# Altium integrated library ALTIUM-WCAP-PSLC-rev17b.IntLib: 56 symbols
Pins are listed as number, name and electrical type; pins without a type are passive.

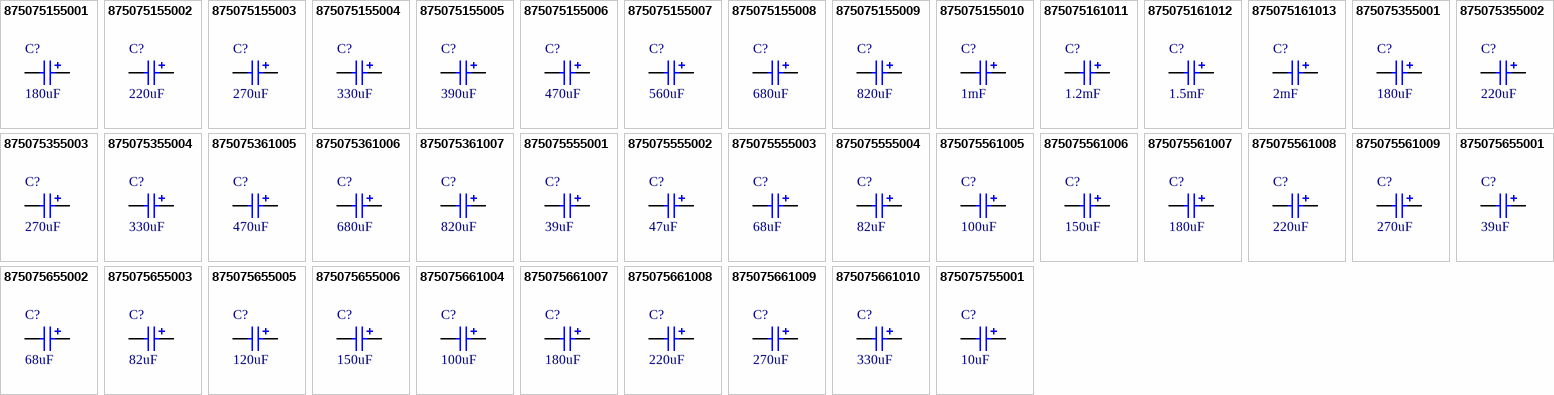
[diagram p0: symbols 875075155001 to 875075755001]

## 875075155001
designator C?  value 180uF
WCAP-PSLC Aluminum Polymer Capacitors, size Ф8x11.7mm, 6.3V DC, 180uF; Part Number: 875075155001; Rated Voltage: 6.3V DC; ComponentLink1Description: Manufacturer; ComponentLink1URL: http://www.we-online.de; ComponentLink2Description: Datasheet; ComponentLink2URL: http://katalog.we-online.de/pbs/datasheet/875075155001.pdf; Published Date: June 2017; Publisher: Wurth Elektronik; Size: Ф8x11.7mm; Life Cycle: 2000h; Operating Temperature: -55 °C up to +105 °C
footprint WCAP-PSLC_8x11.7
pins: 1 P, 2 N

## 875075155002
designator C?  value 220uF
WCAP-PSLC Aluminum Polymer Capacitors, size Ф8x11.7mm, 6.3V DC, 220uF; Part Number: 875075155002; Rated Voltage: 6.3V DC; ComponentLink1Description: Manufacturer; ComponentLink1URL: http://www.we-online.de; ComponentLink2Description: Datasheet; ComponentLink2URL: http://katalog.we-online.de/pbs/datasheet/875075155002.pdf; Published Date: June 2017; Publisher: Wurth Elektronik; Size: Ф8x11.7mm; Life Cycle: 2000h; Operating Temperature: -55 °C up to +105 °C
footprint WCAP-PSLC_8x11.7
pins: 1 P, 2 N

## 875075155003
designator C?  value 270uF
WCAP-PSLC Aluminum Polymer Capacitors, size Ф8x11.7mm, 6.3V DC, 270uF; Part Number: 875075155003; Rated Voltage: 6.3V DC; ComponentLink1Description: Manufacturer; ComponentLink1URL: http://www.we-online.de; ComponentLink2Description: Datasheet; ComponentLink2URL: http://katalog.we-online.de/pbs/datasheet/875075155003.pdf; Published Date: June 2017; Publisher: Wurth Elektronik; Size: Ф8x11.7mm; Life Cycle: 2000h; Operating Temperature: -55 °C up to +105 °C
footprint WCAP-PSLC_8x11.7
pins: 1 P, 2 N

## 875075155004
designator C?  value 330uF
WCAP-PSLC Aluminum Polymer Capacitors, size Ф8x11.7mm, 6.3V DC, 330uF; Part Number: 875075155004; Rated Voltage: 6.3V DC; ComponentLink1Description: Manufacturer; ComponentLink1URL: http://www.we-online.de; ComponentLink2Description: Datasheet; ComponentLink2URL: http://katalog.we-online.de/pbs/datasheet/875075155004.pdf; Published Date: June 2017; Publisher: Wurth Elektronik; Size: Ф8x11.7mm; Life Cycle: 2000h; Operating Temperature: -55 °C up to +105 °C
footprint WCAP-PSLC_8x11.7
pins: 1 P, 2 N

## 875075155005
designator C?  value 390uF
WCAP-PSLC Aluminum Polymer Capacitors, size Ф8x11.7mm, 6.3V DC, 390uF; Part Number: 875075155005; Rated Voltage: 6.3V DC; ComponentLink1Description: Manufacturer; ComponentLink1URL: http://www.we-online.de; ComponentLink2Description: Datasheet; ComponentLink2URL: http://katalog.we-online.de/pbs/datasheet/875075155005.pdf; Published Date: June 2017; Publisher: Wurth Elektronik; Size: Ф8x11.7mm; Life Cycle: 2000h; Operating Temperature: -55 °C up to +105 °C
footprint WCAP-PSLC_8x11.7
pins: 1 P, 2 N

## 875075155006
designator C?  value 470uF
WCAP-PSLC Aluminum Polymer Capacitors, size Ф8x11.7mm, 6.3V DC, 470uF; Part Number: 875075155006; Rated Voltage: 6.3V DC; ComponentLink1Description: Manufacturer; ComponentLink1URL: http://www.we-online.de; ComponentLink2Description: Datasheet; ComponentLink2URL: http://katalog.we-online.de/pbs/datasheet/875075155006.pdf; Published Date: June 2017; Publisher: Wurth Elektronik; Size: Ф8x11.7mm; Life Cycle: 2000h; Operating Temperature: -55 °C up to +105 °C
footprint WCAP-PSLC_8x11.7
pins: 1 P, 2 N

## 875075155007
designator C?  value 560uF
WCAP-PSLC Aluminum Polymer Capacitors, size Ф8x11.7mm, 6.3V DC, 560uF; Part Number: 875075155007; Rated Voltage: 6.3V DC; ComponentLink1Description: Manufacturer; ComponentLink1URL: http://www.we-online.de; ComponentLink2Description: Datasheet; ComponentLink2URL: http://katalog.we-online.de/pbs/datasheet/875075155007.pdf; Published Date: June 2017; Publisher: Wurth Elektronik; Size: Ф8x11.7mm; Life Cycle: 2000h; Operating Temperature: -55 °C up to +105 °C
footprint WCAP-PSLC_8x11.7
pins: 1 P, 2 N

## 875075155008
designator C?  value 680uF
WCAP-PSLC Aluminum Polymer Capacitors, size Ф8x11.7mm, 6.3V DC, 680uF; Part Number: 875075155008; Rated Voltage: 6.3V DC; ComponentLink1Description: Manufacturer; ComponentLink1URL: http://www.we-online.de; ComponentLink2Description: Datasheet; ComponentLink2URL: http://katalog.we-online.de/pbs/datasheet/875075155008.pdf; Published Date: June 2017; Publisher: Wurth Elektronik; Size: Ф8x11.7mm; Life Cycle: 2000h; Operating Temperature: -55 °C up to +105 °C
footprint WCAP-PSLC_8x11.7
pins: 1 P, 2 N

## 875075155009
designator C?  value 820uF
WCAP-PSLC Aluminum Polymer Capacitors, size Ф8x11.7mm, 6.3V DC, 820uF; Part Number: 875075155009; Rated Voltage: 6.3V DC; ComponentLink1Description: Manufacturer; ComponentLink1URL: http://www.we-online.de; ComponentLink2Description: Datasheet; ComponentLink2URL: http://katalog.we-online.de/pbs/datasheet/875075155009.pdf; Published Date: June 2017; Publisher: Wurth Elektronik; Size: Ф8x11.7mm; Life Cycle: 2000h; Operating Temperature: -55 °C up to +105 °C
footprint WCAP-PSLC_8x11.7
pins: 1 P, 2 N

## 875075155010
designator C?  value 1mF
WCAP-PSLC Aluminum Polymer Capacitors, size Ф8x11.7mm, 6.3V DC, 1mF; Part Number: 875075155010; Rated Voltage: 6.3V DC; ComponentLink1Description: Manufacturer; ComponentLink1URL: http://www.we-online.de; ComponentLink2Description: Datasheet; ComponentLink2URL: http://katalog.we-online.de/pbs/datasheet/875075155010.pdf; Published Date: June 2017; Publisher: Wurth Elektronik; Size: Ф8x11.7mm; Life Cycle: 2000h; Operating Temperature: -55 °C up to +105 °C
footprint WCAP-PSLC_8x11.7
pins: 1 P, 2 N

## 875075161011
designator C?  value 1.2mF
WCAP-PSLC Aluminum Polymer Capacitors, size Ф10x12.4mm, 6.3V DC, 1.2mF; Part Number: 875075161011; Rated Voltage: 6.3V DC; ComponentLink1Description: Manufacturer; ComponentLink1URL: http://www.we-online.de; ComponentLink2Description: Datasheet; ComponentLink2URL: http://katalog.we-online.de/pbs/datasheet/875075161011.pdf; Published Date: June 2017; Publisher: Wurth Elektronik; Size: Ф10x12.4mm; Life Cycle: 2000h; Operating Temperature: -55 °C up to +105 °C
footprint WCAP-PSLC_10x12.4
pins: 1 P, 2 N

## 875075161012
designator C?  value 1.5mF
WCAP-PSLC Aluminum Polymer Capacitors, size Ф10x12.4mm, 6.3V DC, 1.5mF; Part Number: 875075161012; Rated Voltage: 6.3V DC; ComponentLink1Description: Manufacturer; ComponentLink1URL: http://www.we-online.de; ComponentLink2Description: Datasheet; ComponentLink2URL: http://katalog.we-online.de/pbs/datasheet/875075161012.pdf; Published Date: June 2017; Publisher: Wurth Elektronik; Size: Ф10x12.4mm; Life Cycle: 2000h; Operating Temperature: -55 °C up to +105 °C
footprint WCAP-PSLC_10x12.4
pins: 1 P, 2 N

## 875075161013
designator C?  value 2mF
WCAP-PSLC Aluminum Polymer Capacitors, size Ф10x12.4mm, 6.3V DC, 2mF; Part Number: 875075161013; Rated Voltage: 6.3V DC; ComponentLink1Description: Manufacturer; ComponentLink1URL: http://www.we-online.de; ComponentLink2Description: Datasheet; ComponentLink2URL: http://katalog.we-online.de/pbs/datasheet/875075161013.pdf; Published Date: June 2017; Publisher: Wurth Elektronik; Size: Ф10x12.4mm; Life Cycle: 2000h; Operating Temperature: -55 °C up to +105 °C
footprint WCAP-PSLC_10x12.4
pins: 1 P, 2 N

## 875075355001
designator C?  value 180uF
WCAP-PSLC Aluminum Polymer Capacitors, size Ф8x11.7mm, 16V DC, 180uF; Part Number: 875075355001; Rated Voltage: 16V DC; ComponentLink1Description: Manufacturer; ComponentLink1URL: http://www.we-online.de; ComponentLink2Description: Datasheet; ComponentLink2URL: http://katalog.we-online.de/pbs/datasheet/875075355001.pdf; Published Date: June 2017; Publisher: Wurth Elektronik; Size: Ф8x11.7mm; Life Cycle: 2000h; Operating Temperature: -55 °C up to +105 °C
footprint WCAP-PSLC_8x11.7 (Aluminium Polymer V-Chip SMT Capacitors, Ф8x11.7mm)
pins: 1 P, 2 N

## 875075355002
designator C?  value 220uF
WCAP-PSLC Aluminum Polymer Capacitors, size Ф8x11.7mm, 16V DC, 220uF; Part Number: 875075355002; Rated Voltage: 16V DC; ComponentLink1Description: Manufacturer; ComponentLink1URL: http://www.we-online.de; ComponentLink2Description: Datasheet; ComponentLink2URL: http://katalog.we-online.de/pbs/datasheet/875075355002.pdf; Published Date: June 2017; Publisher: Wurth Elektronik; Size: Ф8x11.7mm; Life Cycle: 2000h; Operating Temperature: -55 °C up to +105 °C
footprint WCAP-PSLC_8x11.7
pins: 1 P, 2 N

## 875075355003
designator C?  value 270uF
WCAP-PSLC Aluminum Polymer Capacitors, size Ф8x11.7mm, 16V DC, 270uF; Part Number: 875075355003; Rated Voltage: 16V DC; ComponentLink1Description: Manufacturer; ComponentLink1URL: http://www.we-online.de; ComponentLink2Description: Datasheet; ComponentLink2URL: http://katalog.we-online.de/pbs/datasheet/875075355003.pdf; Published Date: June 2017; Publisher: Wurth Elektronik; Size: Ф8x11.7mm; Life Cycle: 2000h; Operating Temperature: -55 °C up to +105 °C
footprint WCAP-PSLC_8x11.7
pins: 1 P, 2 N

## 875075355004
designator C?  value 330uF
WCAP-PSLC Aluminum Polymer Capacitors, size Ф8x11.7mm, 16V DC, 330uF; Part Number: 875075355004; Rated Voltage: 16V DC; ComponentLink1Description: Manufacturer; ComponentLink1URL: http://www.we-online.de; ComponentLink2Description: Datasheet; ComponentLink2URL: http://katalog.we-online.de/pbs/datasheet/875075355004.pdf; Published Date: June 2017; Publisher: Wurth Elektronik; Size: Ф8x11.7mm; Life Cycle: 2000h; Operating Temperature: -55 °C up to +105 °C
footprint WCAP-PSLC_8x11.7
pins: 1 P, 2 N

## 875075361005
designator C?  value 470uF
WCAP-PSLC Aluminum Polymer Capacitors, size Ф10x12.4mm, 16V DC, 470uF; Part Number: 875075361005; Rated Voltage: 16V DC; ComponentLink1Description: Manufacturer; ComponentLink1URL: http://www.we-online.de; ComponentLink2Description: Datasheet; ComponentLink2URL: http://katalog.we-online.de/pbs/datasheet/875075361005.pdf; Published Date: June 2017; Publisher: Wurth Elektronik; Size: Ф10x12.4mm; Life Cycle: 2000h; Operating Temperature: -55 °C up to +105 °C
footprint WCAP-PSLC_10x12.4
pins: 1 P, 2 N

## 875075361006
designator C?  value 680uF
WCAP-PSLC Aluminum Polymer Capacitors, size Ф10x12.4mm, 16V DC, 680uF; Part Number: 875075361006; Rated Voltage: 16V DC; ComponentLink1Description: Manufacturer; ComponentLink1URL: http://www.we-online.de; ComponentLink2Description: Datasheet; ComponentLink2URL: http://katalog.we-online.de/pbs/datasheet/875075361006.pdf; Published Date: June 2017; Publisher: Wurth Elektronik; Size: Ф10x12.4mm; Life Cycle: 2000h; Operating Temperature: -55 °C up to +105 °C
footprint WCAP-PSLC_10x12.4
pins: 1 P, 2 N

## 875075361007
designator C?  value 820uF
WCAP-PSLC Aluminum Polymer Capacitors, size Ф10x12.4mm, 16V DC, 820uF; Part Number: 875075361007; Rated Voltage: 16V DC; ComponentLink1Description: Manufacturer; ComponentLink1URL: http://www.we-online.de; ComponentLink2Description: Datasheet; ComponentLink2URL: http://katalog.we-online.de/pbs/datasheet/875075361007.pdf; Published Date: June 2017; Publisher: Wurth Elektronik; Size: Ф10x12.4mm; Life Cycle: 2000h; Operating Temperature: -55 °C up to +105 °C
footprint WCAP-PSLC_10x12.4
pins: 1 P, 2 N

## 875075555001
designator C?  value 39uF
WCAP-PSLC Aluminum Polymer Capacitors, size Ф8x11.7mm, 25V DC, 39uF; Part Number: 875075555001; Rated Voltage: 25V DC; ComponentLink1Description: Manufacturer; ComponentLink1URL: http://www.we-online.de; ComponentLink2Description: Datasheet; ComponentLink2URL: http://katalog.we-online.de/pbs/datasheet/875075555001.pdf; Published Date: June 2017; Publisher: Wurth Elektronik; Size: Ф8x11.7mm; Life Cycle: 2000h; Operating Temperature: -55 °C up to +105 °C
footprint WCAP-PSLC_8x11.7
pins: 1 P, 2 N

## 875075555002
designator C?  value 47uF
WCAP-PSLC Aluminum Polymer Capacitors, size Ф8x11.7mm, 25V DC, 47uF; Part Number: 875075555002; Rated Voltage: 25V DC; ComponentLink1Description: Manufacturer; ComponentLink1URL: http://www.we-online.de; ComponentLink2Description: Datasheet; ComponentLink2URL: http://katalog.we-online.de/pbs/datasheet/875075555002.pdf; Published Date: June 2017; Publisher: Wurth Elektronik; Size: Ф8x11.7mm; Life Cycle: 2000h; Operating Temperature: -55 °C up to +105 °C
footprint WCAP-PSLC_8x11.7
pins: 1 P, 2 N

## 875075555003
designator C?  value 68uF
WCAP-PSLC Aluminum Polymer Capacitors, size Ф8x11.7mm, 25V DC, 68uF; Part Number: 875075555003; Rated Voltage: 25V DC; ComponentLink1Description: Manufacturer; ComponentLink1URL: http://www.we-online.de; ComponentLink2Description: Datasheet; ComponentLink2URL: http://katalog.we-online.de/pbs/datasheet/875075555003.pdf; Published Date: June 2017; Publisher: Wurth Elektronik; Size: Ф8x11.7mm; Life Cycle: 2000h; Operating Temperature: -55 °C up to +105 °C
footprint WCAP-PSLC_8x11.7
pins: 1 P, 2 N

## 875075555004
designator C?  value 82uF
WCAP-PSLC Aluminum Polymer Capacitors, size Ф8x11.7mm, 25V DC, 82uF; Part Number: 875075555004; Rated Voltage: 25V DC; ComponentLink1Description: Manufacturer; ComponentLink1URL: http://www.we-online.de; ComponentLink2Description: Datasheet; ComponentLink2URL: http://katalog.we-online.de/pbs/datasheet/875075555004.pdf; Published Date: June 2017; Publisher: Wurth Elektronik; Size: Ф8x11.7mm; Life Cycle: 2000h; Operating Temperature: -55 °C up to +105 °C
footprint WCAP-PSLC_8x11.7
pins: 1 P, 2 N

## 875075561005
designator C?  value 100uF
WCAP-PSLC Aluminum Polymer Capacitors, size Ф10x12.4mm, 25V DC, 100uF; Part Number: 875075561005; Rated Voltage: 25V DC; ComponentLink1Description: Manufacturer; ComponentLink1URL: http://www.we-online.de; ComponentLink2Description: Datasheet; ComponentLink2URL: http://katalog.we-online.de/pbs/datasheet/875075561005.pdf; Published Date: June 2017; Publisher: Wurth Elektronik; Size: Ф10x12.4mm; Life Cycle: 2000h; Operating Temperature: -55 °C up to +105 °C
footprint WCAP-PSLC_10x12.4
pins: 1 P, 2 N

## 875075561006
designator C?  value 150uF
WCAP-PSLC Aluminum Polymer Capacitors, size Ф10x12.4mm, 25V DC, 150uF; Part Number: 875075561006; Rated Voltage: 25V DC; ComponentLink1Description: Manufacturer; ComponentLink1URL: http://www.we-online.de; ComponentLink2Description: Datasheet; ComponentLink2URL: http://katalog.we-online.de/pbs/datasheet/875075561006.pdf; Published Date: June 2017; Publisher: Wurth Elektronik; Size: Ф10x12.4mm; Life Cycle: 2000h; Operating Temperature: -55 °C up to +105 °C
footprint WCAP-PSLC_10x12.4
pins: 1 P, 2 N

## 875075561007
designator C?  value 180uF
WCAP-PSLC Aluminum Polymer Capacitors, size Ф10x12.4mm, 25V DC, 180uF; Part Number: 875075561007; Rated Voltage: 25V DC; ComponentLink1Description: Manufacturer; ComponentLink1URL: http://www.we-online.de; ComponentLink2Description: Datasheet; ComponentLink2URL: http://katalog.we-online.de/pbs/datasheet/875075561007.pdf; Published Date: June 2017; Publisher: Wurth Elektronik; Size: Ф10x12.4mm; Life Cycle: 2000h; Operating Temperature: -55 °C up to +105 °C
footprint WCAP-PSLC_10x12.4
pins: 1 P, 2 N

## 875075561008
designator C?  value 220uF
WCAP-PSLC Aluminum Polymer Capacitors, size Ф10x12.4mm, 25V DC, 220uF; Part Number: 875075561008; Rated Voltage: 25V DC; ComponentLink1Description: Manufacturer; ComponentLink1URL: http://www.we-online.de; ComponentLink2Description: Datasheet; ComponentLink2URL: http://katalog.we-online.de/pbs/datasheet/875075561008.pdf; Published Date: June 2017; Publisher: Wurth Elektronik; Size: Ф10x12.4mm; Life Cycle: 2000h; Operating Temperature: -55 °C up to +105 °C
footprint WCAP-PSLC_10x12.4
pins: 1 P, 2 N

## 875075561009
designator C?  value 270uF
WCAP-PSLC Aluminum Polymer Capacitors, size Ф10x12.4mm, 25V DC, 270uF; Part Number: 875075561009; Rated Voltage: 25V DC; ComponentLink1Description: Manufacturer; ComponentLink1URL: http://www.we-online.de; ComponentLink2Description: Datasheet; ComponentLink2URL: http://katalog.we-online.de/pbs/datasheet/875075561009.pdf; Published Date: June 2017; Publisher: Wurth Elektronik; Size: Ф10x12.4mm; Life Cycle: 2000h; Operating Temperature: -55 °C up to +105 °C
footprint WCAP-PSLC_10x12.4
pins: 1 P, 2 N

## 875075655001
designator C?  value 39uF
WCAP-PSLC Aluminum Polymer Capacitors, size Ф8x11.7mm, 35V DC, 39uF; Part Number: 875075655001; Rated Voltage: 35V DC; ComponentLink1Description: Manufacturer; ComponentLink1URL: http://www.we-online.de; ComponentLink2Description: Datasheet; ComponentLink2URL: http://katalog.we-online.de/pbs/datasheet/875075655001.pdf; Published Date: June 2017; Publisher: Wurth Elektronik; Size: Ф8x11.7mm; Life Cycle: 2000h; Operating Temperature: -55 °C up to +105 °C
footprint WCAP-PSLC_8x11.7
pins: 1 P, 2 N

## 875075655002
designator C?  value 68uF
WCAP-PSLC Aluminum Polymer Capacitors, size Ф8x11.7mm, 35V DC, 68uF; Part Number: 875075655002; Rated Voltage: 35V DC; ComponentLink1Description: Manufacturer; ComponentLink1URL: http://www.we-online.de; ComponentLink2Description: Datasheet; ComponentLink2URL: http://katalog.we-online.de/pbs/datasheet/875075655002.pdf; Published Date: June 2017; Publisher: Wurth Elektronik; Size: Ф8x11.7mm; Life Cycle: 2000h; Operating Temperature: -55 °C up to +105 °C
footprint WCAP-PSLC_8x11.7
pins: 1 P, 2 N

## 875075655003
designator C?  value 82uF
WCAP-PSLC Aluminum Polymer Capacitors, size Ф8x11.7mm, 35V DC, 82uF; Part Number: 875075655003; Rated Voltage: 35V DC; ComponentLink1Description: Manufacturer; ComponentLink1URL: http://www.we-online.de; ComponentLink2Description: Datasheet; ComponentLink2URL: http://katalog.we-online.de/pbs/datasheet/875075655003.pdf; Published Date: June 2017; Publisher: Wurth Elektronik; Size: Ф8x11.7mm; Life Cycle: 2000h; Operating Temperature: -55 °C up to +105 °C
footprint WCAP-PSLC_8x11.7
pins: 1 P, 2 N

## 875075655005
designator C?  value 120uF
WCAP-PSLC Aluminum Polymer Capacitors, size Ф8x11.7mm, 35V DC, 120uF; Part Number: 875075655005; Rated Voltage: 35V DC; ComponentLink1Description: Manufacturer; ComponentLink1URL: http://www.we-online.de; ComponentLink2Description: Datasheet; ComponentLink2URL: http://katalog.we-online.de/pbs/datasheet/875075655005.pdf; Published Date: June 2017; Publisher: Wurth Elektronik; Size: Ф8x11.7mm; Life Cycle: 2000h; Operating Temperature: -55 °C up to +105 °C
footprint WCAP-PSLC_8x11.7
pins: 1 P, 2 N

## 875075655006
designator C?  value 150uF
WCAP-PSLC Aluminum Polymer Capacitors, size Ф8x11.7mm, 35V DC, 150uF; Part Number: 875075655006; Rated Voltage: 35V DC; ComponentLink1Description: Manufacturer; ComponentLink1URL: http://www.we-online.de; ComponentLink2Description: Datasheet; ComponentLink2URL: http://katalog.we-online.de/pbs/datasheet/875075655006.pdf; Published Date: June 2017; Publisher: Wurth Elektronik; Size: Ф8x11.7mm; Life Cycle: 2000h; Operating Temperature: -55 °C up to +105 °C
footprint WCAP-PSLC_8x11.7
pins: 1 P, 2 N

## 875075661004
designator C?  value 100uF
WCAP-PSLC Aluminum Polymer Capacitors, size Ф10x12.4mm, 35V DC, 100uF; Part Number: 875075661004; Rated Voltage: 35V DC; ComponentLink1Description: Manufacturer; ComponentLink1URL: http://www.we-online.de; ComponentLink2Description: Datasheet; ComponentLink2URL: http://katalog.we-online.de/pbs/datasheet/875075661004.pdf; Published Date: June 2017; Publisher: Wurth Elektronik; Size: Ф10x12.4mm; Life Cycle: 2000h; Operating Temperature: -55 °C up to +105 °C
footprint WCAP-PSLC_10x12.4
pins: 1 P, 2 N

## 875075661007
designator C?  value 180uF
WCAP-PSLC Aluminum Polymer Capacitors, size Ф10x12.4mm, 35V DC, 180uF; Part Number: 875075661007; Rated Voltage: 35V DC; ComponentLink1Description: Manufacturer; ComponentLink1URL: http://www.we-online.de; ComponentLink2Description: Datasheet; ComponentLink2URL: http://katalog.we-online.de/pbs/datasheet/875075661007.pdf; Published Date: June 2017; Publisher: Wurth Elektronik; Size: Ф10x12.4mm; Life Cycle: 2000h; Operating Temperature: -55 °C up to +105 °C
footprint WCAP-PSLC_10x12.4
pins: 1 P, 2 N

## 875075661008
designator C?  value 220uF
WCAP-PSLC Aluminum Polymer Capacitors, size Ф10x12.4mm, 35V DC, 220uF; Part Number: 875075661008; Rated Voltage: 35V DC; ComponentLink1Description: Manufacturer; ComponentLink1URL: http://www.we-online.de; ComponentLink2Description: Datasheet; ComponentLink2URL: http://katalog.we-online.de/pbs/datasheet/875075661008.pdf; Published Date: June 2017; Publisher: Wurth Elektronik; Size: Ф10x12.4mm; Life Cycle: 2000h; Operating Temperature: -55 °C up to +105 °C
footprint WCAP-PSLC_10x12.4
pins: 1 P, 2 N

## 875075661009
designator C?  value 270uF
WCAP-PSLC Aluminum Polymer Capacitors, size Ф10x12.4mm, 35V DC, 270uF; Part Number: 875075661009; Rated Voltage: 35V DC; ComponentLink1Description: Manufacturer; ComponentLink1URL: http://www.we-online.de; ComponentLink2Description: Datasheet; ComponentLink2URL: http://katalog.we-online.de/pbs/datasheet/875075661009.pdf; Published Date: June 2017; Publisher: Wurth Elektronik; Size: Ф10x12.4mm; Life Cycle: 2000h; Operating Temperature: -55 °C up to +105 °C
footprint WCAP-PSLC_10x12.4
pins: 1 P, 2 N

## 875075661010
designator C?  value 330uF
WCAP-PSLC Aluminum Polymer Capacitors, size Ф10x12.4mm, 35V DC, 330uF; Part Number: 875075661010; Rated Voltage: 35V DC; ComponentLink1Description: Manufacturer; ComponentLink1URL: http://www.we-online.de; ComponentLink2Description: Datasheet; ComponentLink2URL: http://katalog.we-online.de/pbs/datasheet/875075661010.pdf; Published Date: June 2017; Publisher: Wurth Elektronik; Size: Ф10x12.4mm; Life Cycle: 2000h; Operating Temperature: -55 °C up to +105 °C
footprint WCAP-PSLC_10x12.4
pins: 1 P, 2 N

## 875075755001
designator C?  value 10uF
WCAP-PSLC Aluminum Polymer Capacitors, size Ф8x11.7mm, 50V DC, 10uF; Part Number: 875075755001; Rated Voltage: 50V DC; ComponentLink1Description: Manufacturer; ComponentLink1URL: http://www.we-online.de; ComponentLink2Description: Datasheet; ComponentLink2URL: http://katalog.we-online.de/pbs/datasheet/875075755001.pdf; Published Date: June 2017; Publisher: Wurth Elektronik; Size: Ф8x11.7mm; Life Cycle: 2000h; Operating Temperature: -55 °C up to +105 °C
footprint WCAP-PSLC_8x11.7
pins: 1 P, 2 N

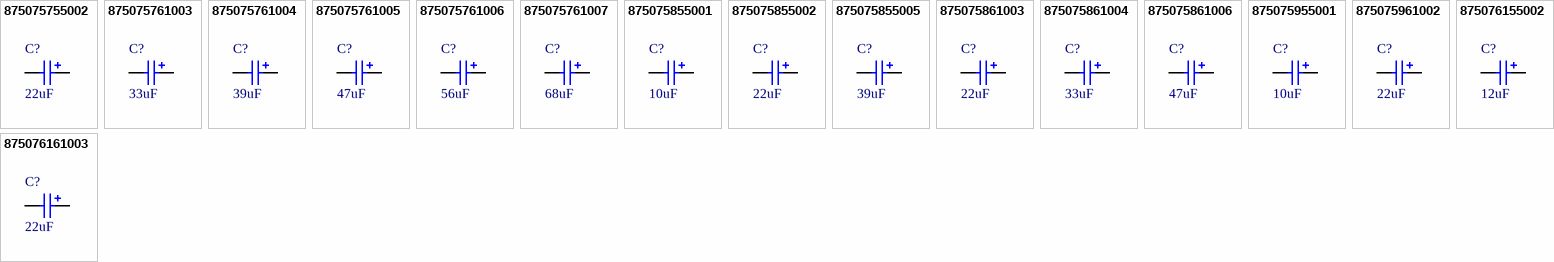
[diagram p1: symbols 875075755002 to 875076161003]

## 875075755002
designator C?  value 22uF
WCAP-PSLC Aluminum Polymer Capacitors, size Ф8x11.7mm, 50V DC, 22uF; Part Number: 875075755002; Rated Voltage: 50V DC; ComponentLink1Description: Manufacturer; ComponentLink1URL: http://www.we-online.de; ComponentLink2Description: Datasheet; ComponentLink2URL: http://katalog.we-online.de/pbs/datasheet/875075755002.pdf; Published Date: June 2017; Publisher: Wurth Elektronik; Size: Ф8x11.7mm; Life Cycle: 2000h; Operating Temperature: -55 °C up to +105 °C
footprint WCAP-PSLC_8x11.7
pins: 1 P, 2 N

## 875075761003
designator C?  value 33uF
WCAP-PSLC Aluminum Polymer Capacitors, size Ф10x12.4mm, 50V DC, 33uF; Part Number: 875075761003; Rated Voltage: 50V DC; ComponentLink1Description: Manufacturer; ComponentLink1URL: http://www.we-online.de; ComponentLink2Description: Datasheet; ComponentLink2URL: http://katalog.we-online.de/pbs/datasheet/875075761003.pdf; Published Date: June 2017; Publisher: Wurth Elektronik; Size: Ф10x12.4mm; Life Cycle: 2000h; Operating Temperature: -55 °C up to +105 °C
footprint WCAP-PSLC_10x12.4
pins: 1 P, 2 N

## 875075761004
designator C?  value 39uF
WCAP-PSLC Aluminum Polymer Capacitors, size Ф10x12.4mm, 50V DC, 39uF; Part Number: 875075761004; Rated Voltage: 50V DC; ComponentLink1Description: Manufacturer; ComponentLink1URL: http://www.we-online.de; ComponentLink2Description: Datasheet; ComponentLink2URL: http://katalog.we-online.de/pbs/datasheet/875075761004.pdf; Published Date: June 2017; Publisher: Wurth Elektronik; Size: Ф10x12.4mm; Life Cycle: 2000h; Operating Temperature: -55 °C up to +105 °C
footprint WCAP-PSLC_10x12.4
pins: 1 P, 2 N

## 875075761005
designator C?  value 47uF
WCAP-PSLC Aluminum Polymer Capacitors, size Ф10x12.4mm, 50V DC, 47uF; Part Number: 875075761005; Rated Voltage: 50V DC; ComponentLink1Description: Manufacturer; ComponentLink1URL: http://www.we-online.de; ComponentLink2Description: Datasheet; ComponentLink2URL: http://katalog.we-online.de/pbs/datasheet/875075761005.pdf; Published Date: June 2017; Publisher: Wurth Elektronik; Size: Ф10x12.4mm; Life Cycle: 2000h; Operating Temperature: -55 °C up to +105 °C
footprint WCAP-PSLC_10x12.4
pins: 1 P, 2 N

## 875075761006
designator C?  value 56uF
WCAP-PSLC Aluminum Polymer Capacitors, size Ф10x12.4mm, 50V DC, 56uF; Part Number: 875075761006; Rated Voltage: 50V DC; ComponentLink1Description: Manufacturer; ComponentLink1URL: http://www.we-online.de; ComponentLink2Description: Datasheet; ComponentLink2URL: http://katalog.we-online.de/pbs/datasheet/875075761006.pdf; Published Date: June 2017; Publisher: Wurth Elektronik; Size: Ф10x12.4mm; Life Cycle: 2000h; Operating Temperature: -55 °C up to +105 °C
footprint WCAP-PSLC_10x12.4
pins: 1 P, 2 N

## 875075761007
designator C?  value 68uF
WCAP-PSLC Aluminum Polymer Capacitors, size Ф10x12.4mm, 50V DC, 68uF; Part Number: 875075761007; Rated Voltage: 50V DC; ComponentLink1Description: Manufacturer; ComponentLink1URL: http://www.we-online.de; ComponentLink2Description: Datasheet; ComponentLink2URL: http://katalog.we-online.de/pbs/datasheet/875075761007.pdf; Published Date: June 2017; Publisher: Wurth Elektronik; Size: Ф10x12.4mm; Life Cycle: 2000h; Operating Temperature: -55 °C up to +105 °C
footprint WCAP-PSLC_10x12.4
pins: 1 P, 2 N

## 875075855001
designator C?  value 10uF
WCAP-PSLC Aluminum Polymer Capacitors, size Ф8x11.7mm, 63V DC, 10uF; Part Number: 875075855001; Rated Voltage: 63V DC; ComponentLink1Description: Manufacturer; ComponentLink1URL: http://www.we-online.de; ComponentLink2Description: Datasheet; ComponentLink2URL: http://katalog.we-online.de/pbs/datasheet/875075855001.pdf; Published Date: June 2017; Publisher: Wurth Elektronik; Size: Ф8x11.7mm; Life Cycle: 2000h; Operating Temperature: -55 °C up to +105 °C
footprint WCAP-PSLC_8x11.7
pins: 1 P, 2 N

## 875075855002
designator C?  value 22uF
WCAP-PSLC Aluminum Polymer Capacitors, size Ф8x11.7mm, 63V DC, 22uF; Part Number: 875075855002; Rated Voltage: 63V DC; ComponentLink1Description: Manufacturer; ComponentLink1URL: http://www.we-online.de; ComponentLink2Description: Datasheet; ComponentLink2URL: http://katalog.we-online.de/pbs/datasheet/875075855002.pdf; Published Date: July 2017; Publisher: Wurth Elektronik; Size: Ф8x11.7mm; Life Cycle: 2000h; Operating Temperature: -55 °C up to +105 °C
footprint WCAP-PSLC_8x11.7 (Aluminium Polymer V-Chip SMT Capacitors, Ф8x11.7mm)
pins: 1 P, 2 N

## 875075855005
designator C?  value 39uF
WCAP-PSLC Aluminum Polymer Capacitors, size Ф8x11.7mm, 63V DC, 39uF; Part Number: 875075855005; Rated Voltage: 63V DC; ComponentLink1Description: Manufacturer; ComponentLink1URL: http://www.we-online.de; ComponentLink2Description: Datasheet; ComponentLink2URL: http://katalog.we-online.de/pbs/datasheet/875075855005.pdf; Published Date: June 2017; Publisher: Wurth Elektronik; Size: Ф8x11.7mm; Life Cycle: 2000h; Operating Temperature: -55 °C up to +105 °C
footprint WCAP-PSLC_8x11.7
pins: 1 P, 2 N

## 875075861003
designator C?  value 22uF
WCAP-PSLC Aluminum Polymer Capacitors, size Ф10x12.4mm, 63V DC, 22uF; Part Number: 875075861003; Rated Voltage: 63V DC; ComponentLink1Description: Manufacturer; ComponentLink1URL: http://www.we-online.de; ComponentLink2Description: Datasheet; ComponentLink2URL: http://katalog.we-online.de/pbs/datasheet/875075861003.pdf; Published Date: July 2017; Publisher: Wurth Elektronik; Size: Ф10x12.4mm; Life Cycle: 2000h; Operating Temperature: -55 °C up to +105 °C
footprint WCAP-PSLC_10x12.4 (Aluminium Polymer V-Chip SMT Capacitors, Ф10x12.4mm)
pins: 1 P, 2 N

## 875075861004
designator C?  value 33uF
WCAP-PSLC Aluminum Polymer Capacitors, size Ф10x12.4mm, 63V DC, 33uF; Part Number: 875075861004; Rated Voltage: 63V DC; ComponentLink1Description: Manufacturer; ComponentLink1URL: http://www.we-online.de; ComponentLink2Description: Datasheet; ComponentLink2URL: http://katalog.we-online.de/pbs/datasheet/875075861004.pdf; Published Date: July 2017; Publisher: Wurth Elektronik; Size: Ф10x12.4mm; Life Cycle: 2000h; Operating Temperature: -55 °C up to +105 °C
footprint WCAP-PSLC_10x12.4 (Aluminium Polymer V-Chip SMT Capacitors, Ф10x12.4mm)
pins: 1 P, 2 N

## 875075861006
designator C?  value 47uF
WCAP-PSLC Aluminum Polymer Capacitors, size Ф10x12.4mm, 63V DC, 47uF; Part Number: 875075861006; Rated Voltage: 63V DC; ComponentLink1Description: Manufacturer; ComponentLink1URL: http://www.we-online.de; ComponentLink2Description: Datasheet; ComponentLink2URL: http://katalog.we-online.de/pbs/datasheet/875075861006.pdf; Published Date: June 2017; Publisher: Wurth Elektronik; Size: Ф10x12.4mm; Life Cycle: 2000h; Operating Temperature: -55 °C up to +105 °C
footprint WCAP-PSLC_10x12.4
pins: 1 P, 2 N

## 875075955001
designator C?  value 10uF
WCAP-PSLC Aluminum Polymer Capacitors, size Ф8x11.7mm, 100V DC, 10uF; Part Number: 875075955001; Rated Voltage: 100V DC; ComponentLink1Description: Manufacturer; ComponentLink1URL: http://www.we-online.de; ComponentLink2Description: Datasheet; ComponentLink2URL: http://katalog.we-online.de/pbs/datasheet/875075955001.pdf; Published Date: June 2017; Publisher: Wurth Elektronik; Size: Ф8x11.7mm; Life Cycle: 2000h; Operating Temperature: -55 °C up to +105 °C
footprint WCAP-PSLC_8x11.7
pins: 1 P, 2 N

## 875075961002
designator C?  value 22uF
WCAP-PSLC Aluminum Polymer Capacitors, size Ф10x12.4mm, 100V DC, 22uF; Part Number: 875075961002; Rated Voltage: 100V DC; ComponentLink1Description: Manufacturer; ComponentLink1URL: http://www.we-online.de; ComponentLink2Description: Datasheet; ComponentLink2URL: http://katalog.we-online.de/pbs/datasheet/875075961002.pdf; Published Date: June 2017; Publisher: Wurth Elektronik; Size: Ф10x12.4mm; Life Cycle: 2000h; Operating Temperature: -55 °C up to +105 °C
footprint WCAP-PSLC_10x12.4
pins: 1 P, 2 N

## 875076155002
designator C?  value 12uF
WCAP-PSLC Aluminum Polymer Capacitors, size Ф8x11.7mm, 80V DC, 12uF; Part Number: 875076155002; Rated Voltage: 80V DC; ComponentLink1Description: Manufacturer; ComponentLink1URL: http://www.we-online.de; ComponentLink2Description: Datasheet; ComponentLink2URL: http://katalog.we-online.de/pbs/datasheet/875076155002.pdf; Published Date: June 2017; Publisher: Wurth Elektronik; Size: Ф8x11.7mm; Life Cycle: 2000h; Operating Temperature: -55 °C up to +105 °C
footprint WCAP-PSLC_8x11.7
pins: 1 P, 2 N

## 875076161003
designator C?  value 22uF
WCAP-PSLC Aluminum Polymer Capacitors, size Ф10x12.4mm, 80V DC, 22uF; Part Number: 875076161003; Rated Voltage: 80V DC; ComponentLink1Description: Manufacturer; ComponentLink1URL: http://www.we-online.de; ComponentLink2Description: Datasheet; ComponentLink2URL: http://katalog.we-online.de/pbs/datasheet/875076161003.pdf; Published Date: June 2017; Publisher: Wurth Elektronik; Size: Ф10x12.4mm; Life Cycle: 2000h; Operating Temperature: -55 °C up to +105 °C
footprint WCAP-PSLC_10x12.4
pins: 1 P, 2 N